# EAGLE library part ESP32_DEV_BREAKOUT_DEV (library Blizzard_Library)
ESP32 Dev Board Breakout
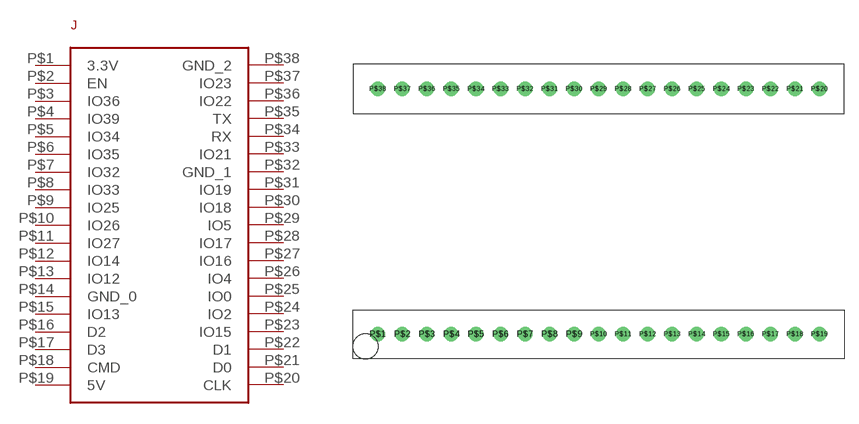
[diagram p10: symbol with the pads of ESP32_DEV_BREAKOUT_PKG; footprint ESP32_DEV_BREAKOUT_PKG]

Designator prefix J

## ESP32_DEV_BREAKOUT_DEV (PN: ESP-WROOM-32)  [ESP32_DEV_BREAKOUT_PKG]
P$1  3.3V
P$2  EN
P$3  IO36
P$4  IO39
P$5  IO34
P$6  IO35
P$7  IO32
P$8  IO33
P$9  IO25
P$10  IO26
P$11  IO27
P$12  IO14
P$13  IO12
P$14  GND_0
P$15  IO13
P$16  D2
P$17  D3
P$18  CMD
P$19  5V
P$20  CLK
P$21  D0
P$22  D1
P$23  IO15
P$24  IO2
P$25  IO0
P$26  IO4
P$27  IO16
P$28  IO17
P$29  IO5
P$30  IO18
P$31  IO19
P$32  GND_1
P$33  IO21
P$34  RX
P$35  TX
P$36  IO22
P$37  IO23
P$38  GND_2

## Footprint ESP32_DEV_BREAKOUT_PKG (pad centres in mm)
drill 1: P$1 0,0; P$2 2.54,0; P$3 5.08,0; P$4 7.62,0; P$5 10.16,0; P$6 12.7,0; P$7 15.24,0; P$8 17.78,0; P$9 20.32,0; P$10 22.86,0; P$11 25.4,0; P$12 27.94,0; P$13 30.48,0; P$14 33.02,0; P$15 35.56,0; P$16 38.1,0; P$17 40.64,0; P$18 43.18,0; P$19 45.72,0; P$20 45.72,25.4; P$21 43.18,25.4; P$22 40.64,25.4; P$23 38.1,25.4; P$24 35.56,25.4; P$25 33.02,25.4; P$26 30.48,25.4; P$27 27.94,25.4; P$28 25.4,25.4; P$29 22.86,25.4; P$30 20.32,25.4; P$31 17.78,25.4; P$32 15.24,25.4; P$33 12.7,25.4; P$34 10.16,25.4; P$35 7.62,25.4; P$36 5.08,25.4; P$37 2.54,25.4; P$38 0,25.4